# EAGLE library part PLLD2X28 (library other)
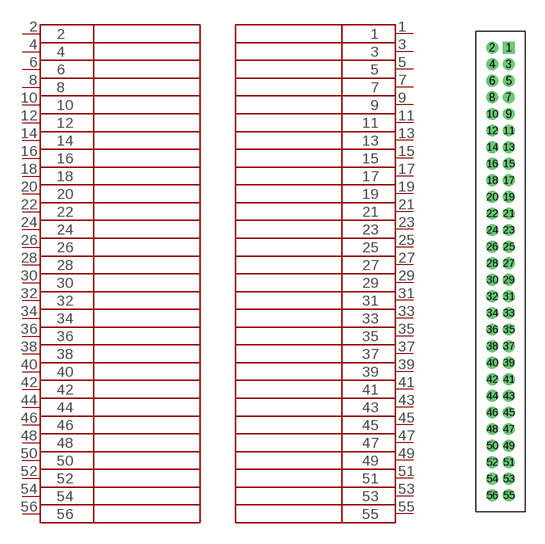
[diagram p0: symbol with the pads of PLLD_2X28_1.27; footprint PLLD_2X28_1.27]

Designator prefix XP

## PLLD2X28  [PLLD_2X28_1.27]
1  1
2  2
3  3
4  4
5  5
6  6
7  7
8  8
9  9
10  10
11  11
12  12
13  13
14  14
15  15
16  16
17  17
18  18
19  19
20  20
21  21
22  22
23  23
24  24
25  25
26  26
27  27
28  28
29  29  pwr
30  30  pwr
31  31  pwr
32  32  pwr
33  33
34  34
35  35
36  36
37  37
38  38
39  39
40  40
41  41
42  42
43  43
44  44
45  45
46  46
47  47
48  48
49  49
50  50
51  51
52  52
53  53
54  54
55  55  pwr
56  56  pwr

## Footprint PLLD_2X28_1.27 (pad centres in mm)
drill 0.4 square: 1 1.27,16.51
drill 0.4: 2 0,16.51; 3 1.27,15.24; 4 0,15.24; 5 1.27,13.97; 6 0,13.97; 7 1.27,12.7; 8 0,12.7; 9 1.27,11.43; 10 0,11.43; 11 1.27,10.16; 12 0,10.16; 13 1.27,8.89; 14 0,8.89; 15 1.27,7.62; 16 0,7.62; 17 1.27,6.35; 18 0,6.35; 19 1.27,5.08; 20 0,5.08; 21 1.27,3.81; 22 0,3.81; 23 1.27,2.54; 24 0,2.54; 25 1.27,1.27; 26 0,1.27; 27 1.27,0; 28 0,0; 29 1.27,-1.27; 30 0,-1.27; 31 1.27,-2.54; 32 0,-2.54; 33 1.27,-3.81; 34 0,-3.81; 35 1.27,-5.08; 36 0,-5.08; 37 1.27,-6.35; 38 0,-6.35; 39 1.27,-7.62; 40 0,-7.62; 41 1.27,-8.89; 42 0,-8.89; 43 1.27,-10.16; 44 0,-10.16; 45 1.27,-11.43; 46 0,-11.43; 47 1.27,-12.7; 48 0,-12.7; 49 1.27,-13.97; 50 0,-13.97; 51 1.27,-15.24; 52 0,-15.24; 53 1.27,-16.51; 54 0,-16.51; 55 1.27,-17.78; 56 0,-17.78